# Altium schematic symbol library Components - 25.04.22 - 16.02.SchLib: 1 symbol
Pins are listed as number, name and electrical type; pins without a type are passive.

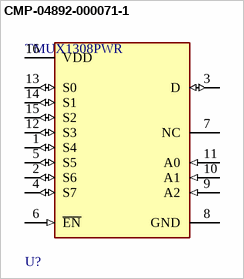
[diagram p0: symbol CMP-04892-000071-1]

## CMP-04892-000071-1
designator U?, comment TMUX1308PWR
1-CHANNEL, 8:1 GENERAL-PURPOSE A
footprint FP-PW0016A-IPC_B
footprint FP-PW0016A-MFG
footprint FP-PW0016A-IPC_A
footprint FP-PW0016A-IPC_C
pins: 1 S4 (io), 2 S6 (io), 3 D (io), 4 S7 (io), 5 S5 (io), 6 ~{EN} (in), 7 NC (power), 8 GND (power), 9 A2 (in), 10 A1 (in), 11 A0 (in), 12 S3 (io), 13 S0 (io), 14 S1 (io), 15 S2 (io), 16 VDD (power)